# Altium integrated library B4B-PH-SM4-TB.IntLib: 1 symbol
Pins are listed as number, name and electrical type; pins without a type are passive.

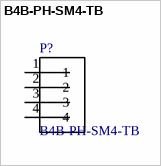
[diagram p0: symbol B4B-PH-SM4-TB]

## B4B-PH-SM4-TB
designator P?
/ Connector Header Surface Mount 4 position 0.079 _2.00mm_ /; MF: JST Sales; SnapEDA_Link: https://www.snapeda.com/parts/B4B-PH-SM4-TB/JST%20Sales%20America%20Inc./view-part/48901/?ref=snap; Availability: Unavailable; Package: None; Price: None; MP: B4B-PH-SM4-TB; Value: *
footprint *JST_B4B-PH-SM4-TB
pins: 1, 2, 3, 4